# EAGLE library part NIMBELINK (library cellular)
NimbeLink Cellular shield module
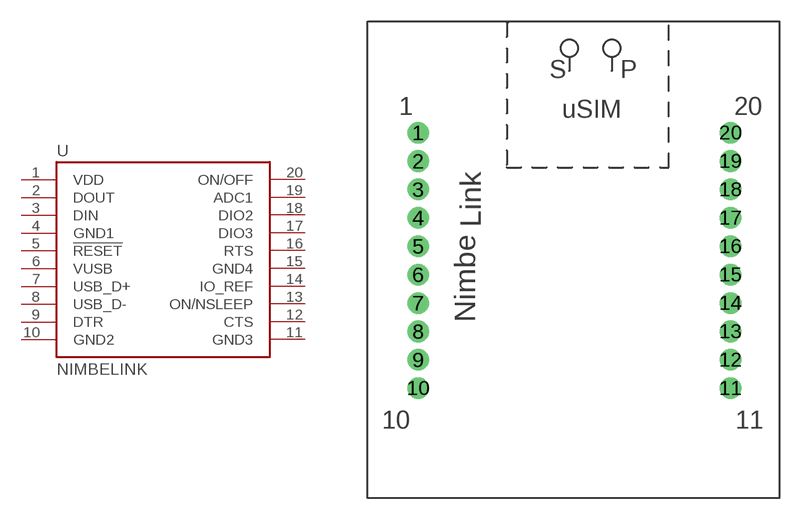
[diagram p0: symbol with the pads of NL-SW-LTE-GELS3; footprint NL-SW-LTE-GELS3]

Designator prefix U

## NIMBELINK (MFR: NimbeLink; MPN: nl-sw-lte-gels3)  [NL-SW-LTE-GELS3]
1  VDD  pas
2  DOUT  pas
3  DIN  pas
4  GND1  pas
5  !RESET  pas
6  VUSB  pas
7  USB_D+  pas
8  USB_D-  pas
9  DTR  pas
10  GND2  pas
11  GND3  pas
12  CTS  pas
13  ON/NSLEEP  pas
14  IO_REF  pas
15  GND4  pas
16  RTS  pas
17  DIO3  pas
18  DIO2  pas
19  ADC1  pas
20  ON/OFF  pas

## Footprint NL-SW-LTE-GELS3 (pad centres in mm)
drill 1.016: 1 0,18; 2 0,16; 3 0,14; 4 0,12; 5 0,10; 6 0,8; 7 0,6; 8 0,4; 9 0,2; 10 0,0; 11 22,0; 12 22,2; 13 22,4; 14 22,6; 15 22,8; 16 22,10; 17 22,12; 18 22,14; 19 22,16; 20 22,18